# EAGLE library part 74*393 (library 74ttl-din)
Dual 4-bit decade and binary COUNTER
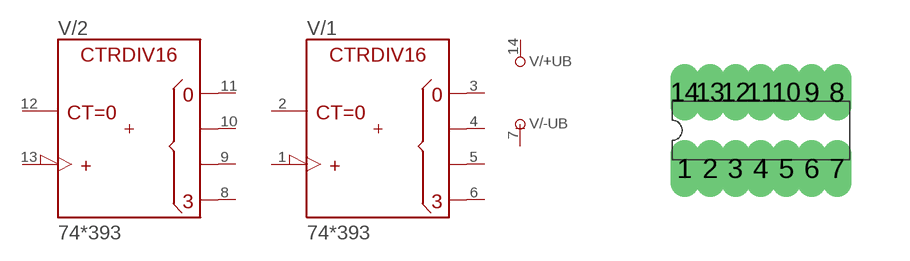
[diagram p101: symbol with the pads of DIL14; footprint DIL14]

Designator prefix V; gates /+UB=+UB /-UB=-UB /1=393 /2=393

## 74393N  [DIL14]
1  /1:A  in
2  /1:CLR  in
3  /1:QA  out
4  /1:QB  out
5  /1:QC  out
6  /1:QD  out
7  /-UB:-UB  pwr
8  /2:QD  out
9  /2:QC  out
10  /2:QB  out
11  /2:QA  out
12  /2:CLR  in
13  /2:A  in
14  /+UB:+UB  pwr

## Footprint DIL14 (pad centres in mm)
Dual In Line Package
drill 0.203 long: 1 -1.905,-0.953; 2 -1.27,-0.953; 3 -0.635,-0.953; 4 0,-0.953; 5 0.635,-0.953; 6 1.27,-0.953; 7 1.905,-0.953; 8 1.905,0.953; 9 1.27,0.953; 10 0.635,0.953; 11 0,0.953; 12 -0.635,0.953; 13 -1.27,0.953; 14 -1.905,0.953